# Altium footprint library MULTIPIN_SOIC.PcbLib: 1 footprints
Each footprint in its own frame and in the unit in brackets; x right, y up, seen from the top. Pads: shape width x height; smd on the part's side, far side on the other; paste and mask are expansions set on the pad; w line width, h text height; cw(c..) or ccw(c..) is an arc to the next point about the centre after c.
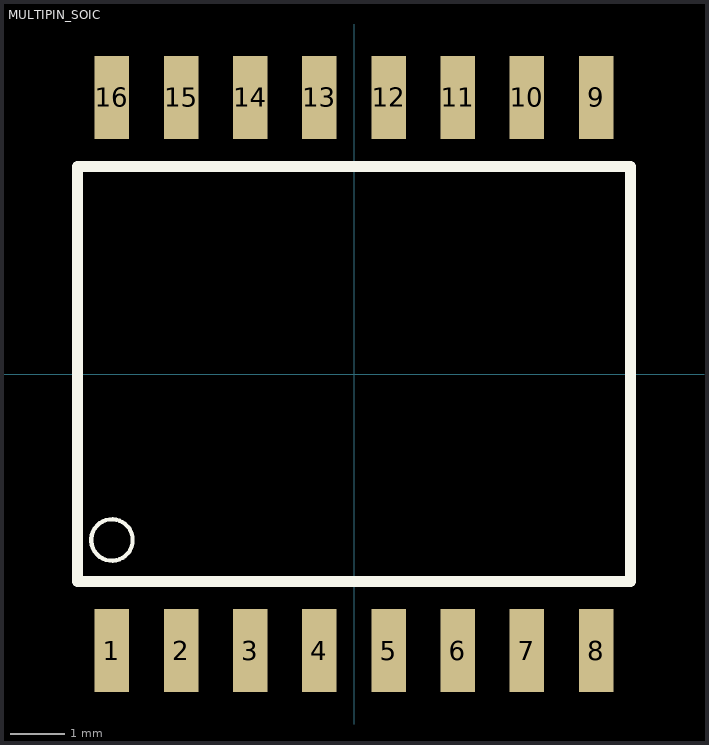
[diagram p0: the footprint, top view; thin cyan lines are the x and y axes]

## MULTIPIN_SOIC [mil] "SOIC-16 style multi-pin footprint"
pads (16):
  rect 25x60 smd: 1(-175,-200) 2(-125,-200) 3(-75,-200) 4(-25,-200) 5(25,-200) 6(75,-200) 7(125,-200) 8(175,-200) 9(175,200) 10(125,200) 11(75,200) 12(25,200) 13(-25,200) 14(-75,200) 15(-125,200) 16(-175,200)
Top Overlay:
  circle w3: c-175,-120 r15
  lines w8: -200,-150 -200,150 200,150 200,-150 -200,-150